# Altium schematic symbol library lib.SchLib: 6 symbols
Pins are listed as number, name and electrical type; pins without a type are passive.

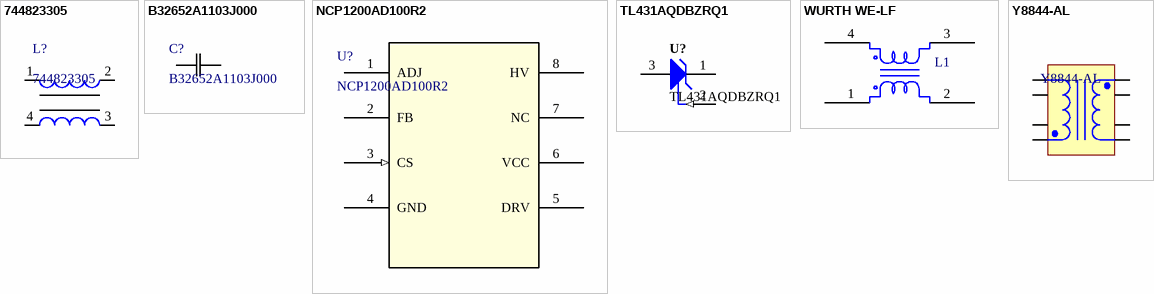
[diagram p0: symbols 744823305 to Y8844-AL]

## 744823305
designator L?
THT Common Mode Power Line Choke WE-CMB, L = 5.00 mH; Inductance: 5.00 mH; ComponentLink1Description: Manufacturer Link; ComponentLink2Description: Datasheet; DatasheetVersion: ver 7, Nov-2006; ComponentLink1URL: http://www.we-online.com; PackageVersion: 2006; PackageDescription: THT Inductor, 4-Leads, Body 25.0 x 17.0 mm; ComponentLink2URL: http://www.we-online.de/katalog/media/pdf/744823305.pdf; PackageReference: WE-CMB-M; PartNumber: 744823305
footprint WE-CMB-M
pins: 1, 2, 3, 4

## B32652A1103J000
designator C?
No Description Available; Manufacturer_Name: TDK; Copyright: Copyright (C) 2025 Ultra Librarian. All rights reserved.; Manufacturer_Part_Number: B32652A1103J000
footprint CAP_B32652A--15--8.5x14.5x18_TDK
pins: 1, 2

## NCP1200AD100R2
designator U?
No Description Available; Manufacturer_Name: onsemi; Copyright: Copyright (C) 2025 Ultra Librarian. All rights reserved.; Manufacturer_Part_Number: NCP1200AD100R2; RefDes: RefDes; Type: Type
footprint SOIC8_ONS
pins: 1 ADJ, 2 FB, 3 CS (in), 4 GND (power), 5 DRV, 6 VCC (power), 7 NC, 8 HV

## TL431AQDBZRQ1
designator U?
Automotive Catalog Adjustable Precision Shunt Regulator, 34 ppm / degC, 100 mA, -40 to 125 degC, 3-pin SOT-23 (DBZ), Green (RoHS & no Sb/Br); Manufacturer: Texas Instruments; Iout/Iz(Max)(mA): 100; Initial Accuracy @ 25/deg C(%): 1; SubFamily: Shunt Voltage Reference; VO Adj(Max)(V): 36; VO Adj(Min)(V): 2.495; Temp Coeff(Typ)(ppm/ degree C): 34; Min Iz for Regulation(uA): 600; Eco-Plan: Green (RoHS & no Sb/Br); PartNumber: TL431AQDBZRQ1; ComponentLink1Description: Manufacturer URL; ComponentLink2Description: Datasheet; DatasheetVersion: SGLS302C; ComponentLink3URL: http://www.ti.com/litv/pdf/mpds108a; ComponentLink1URL: http://www.ti.com/; Code_JEDEC: TO-236; ComponentLink2URL: http://www.ti.com/general/docs/lit/getliterature.tsp?genericPartNumber=TL431A-Q1&fileType=pdf; PackageReference: DBZ0003A; ComponentLink3Description: Package Specification; PackageVersion: 4203227/B; Rating: Automotive; Mounting Technology: Surface Mount; PackageDescription: 3-Pin Plastic Small Outline, Body 2.92 x 1.3 mm, Pitch 0.95 mm
footprint DBZ0003A_L
footprint DBZ0003A_N
footprint DBZ0003A_M
pins: 1 CATHODE, 2 REF (in), 3 ANODE (power)

## WURTH WE-LF
designator L1, comment 7446632003  (value not drawn)
CMC 3.3MH 2.25A 2LN SMD; Manufacturer: Würth Elektronik; DC Resistance (DCR) (Max): 150mOhm; Filter Type: Power Line; Inductance @ Frequency: 3.3mH @ 10kHz; Number of Lines: 2; Voltage Rating - AC: 250V; Part Number: 7446632003; ComponentLink1Description: Datasheet; ComponentLink1URL: https://katalog.we-online.de/pbs/datasheet/7446632003.pdf; ComponentLink2Description: DigiKey Link; ComponentLink2URL: http://digikey.com/product-detail/en/w-rth-elektronik/7446632003/732-1857-2-ND/2056861; Current Rating (Max): 2.25A; LastUpdated: 6/3/2024 8:27:20 PM; Lifecycle Status: Active; Minimum Order: 200; Mounting Type: Surface Mount; Operating Temperature: -40°C ~ 125°C; Package / Case: Horizontal, 4 PC Pad; Packaging: TapeAndReel; Part Status: Active; Price: 4.90; Series: WE-LF; Supplier 1: DigiKey; Supplier Part Number 1: 732-1857-2-ND
footprint WURTH WE-LF
pins: 1, 2, 3, 4

## Y8844-AL
designator ?
Flyback Transformer, 3.5 W, -40 to 85 degC, 18.3 x 20.1 x 14 mm Package; Manufacturer: Coilcraft; Leakage inductance max (uH): 26; Isolation (Vrms): 1500; DCR max (Ohms): 4.25 (8-5) 0.07 (4-1); Output: 6.5 V, 0.54 A; Inductance +/-10% (mH): 2.9; ComponentLink1Description: Manufacturer URL; ComponentLink2Description: Datasheet; DatasheetVersion: 31/01/2005; ComponentLink3Description: Package Specification; Mounting Technology: Through Hole; ComponentLink3URL: http://www.coilcraft.com/pdf_viewer/showpdf.cfm?f=pdf_store:y8844.pdf; Operating Temperature Range: -40 to 85 degC; ComponentLink1URL: http://www.coilcraft.com/; ComponentLink2URL: http://www.coilcraft.com/pdf_viewer/showpdf.cfm?f=pdf_store:y8844.pdf; Application: 3.5 W; PartNumber: Y8844-AL; PackageDescription: 8-Pin Through Hole Package, Body 18.3 x 20.1 mm; PackageReference: Y8844-AL-8
footprint COIL-Y8844-AL-8_V
pins: 1, 2, 3, 4, 5, 6, 7, 8